# Altium integrated library ERA6ARB162V.IntLib: 1 symbol
Pins are listed as number, name and electrical type; pins without a type are passive.

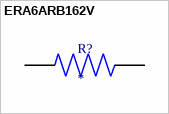
[diagram p0: symbol ERA6ARB162V]

## ERA6ARB162V
designator R?
MP: ERA6ARB162V; Availability: Unavailable; Value: *; Package: None; Price: None
footprint RES_ERA6ARB162V
pins: 1, 2